# Altium footprint library F-SPE-154Series_littlefuse.PcbLib: 1 footprints
Each footprint in its own frame and in the unit in brackets; x right, y up, seen from the top. Pads: shape width x height; smd on the part's side, far side on the other; paste and mask are expansions set on the pad; w line width, h text height; cw(c..) or ccw(c..) is an arc to the next point about the centre after c.
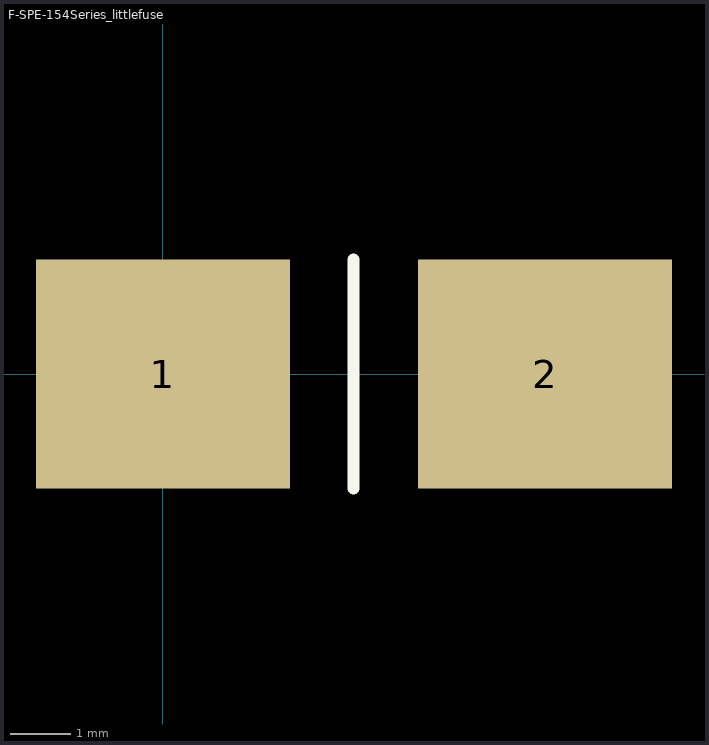
[diagram p0: the footprint, top view; thin cyan lines are the x and y axes]

## F-SPE-154Series_littlefuse [mm]
pads (2):
  rect 4.24x3.81 smd: 1(0,0) 2(6.37,0)
Top Overlay:
  lines w0.2: 3.175,-1.905 3.175,1.905
3D body: height 3.81, standoff 0, extent -1.74,-2.515 8.09,2.515